# Altium integrated library miniUSB.IntLib: 1 symbol
Pins are listed as number, name and electrical type; pins without a type are passive.

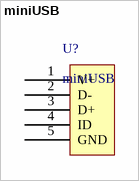
[diagram p0: symbol miniUSB]

## miniUSB
designator U?
footprint miniUSB
pins: 1 V+, 2 D-, 3 D+, 4 ID, 5 GND